# EAGLE library part FH35C-11S-0.3SHW(99) (library FH35C-11S-0.3SHW(99))
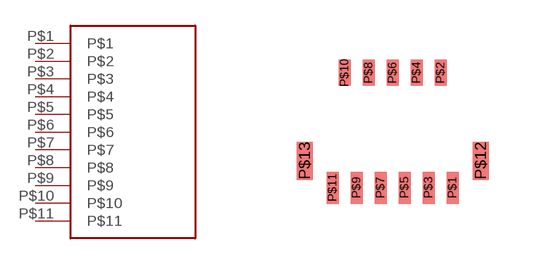
[diagram p0: symbol with the pads of FH35C-11S-0.3SHW(99); footprint FH35C-11S-0.3SHW(99)]

Designator prefix -

## FH35C-11S-0.3SHW(99)  [FH35C-11S-0.3SHW(99)]
P$1  P$1
P$2  P$2
P$3  P$3
P$4  P$4
P$5  P$5
P$6  P$6
P$7  P$7
P$8  P$8
P$9  P$9
P$10  P$10
P$11  P$11

## Footprint FH35C-11S-0.3SHW(99) (pad centres in mm)
smd 0.3 x 0.8: P$1 1.5,-1.4; P$3 0.9,-1.4; P$5 0.3,-1.4; P$7 -0.3,-1.4; P$9 -0.9,-1.4; P$11 -1.5,-1.4
smd 0.3 x 0.65: P$2 1.2,1.475; P$4 0.6,1.475; P$6 0,1.475; P$8 -0.6,1.475; P$10 -1.2,1.475
smd 0.4 x 0.95: P$12 2.2,-0.725; P$13 -2.2,-0.725